# EAGLE library part TLV320AIC23B (library audio)
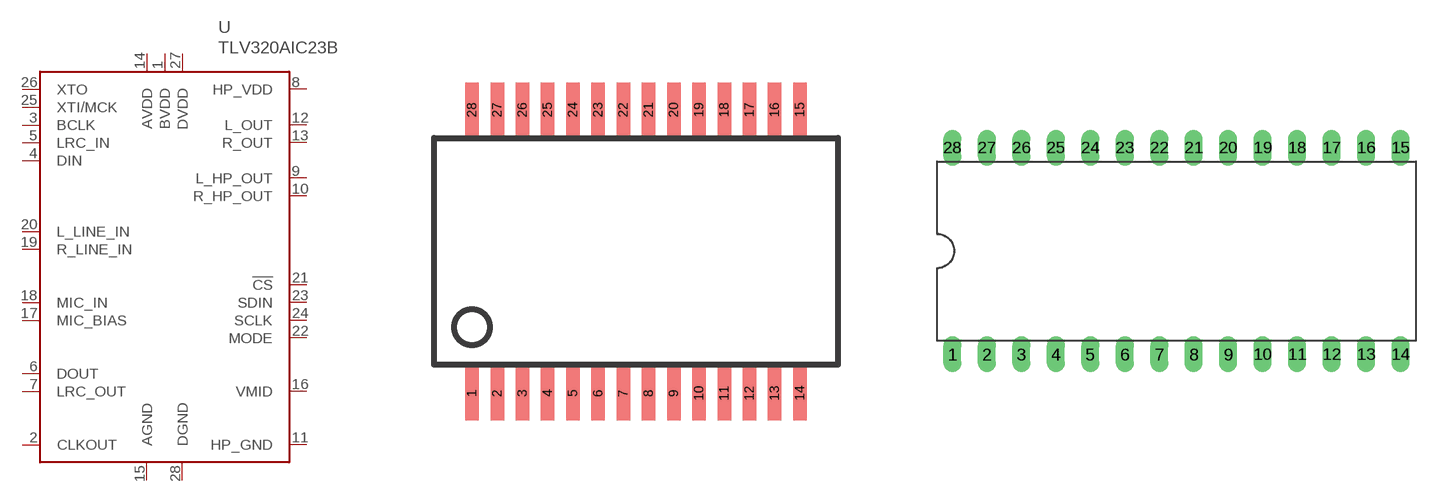
[diagram p1: symbol with the pads of SSOP28BU; footprints SSOP28BU, DIP28-6]

Designator prefix U

## TLV320AIC23BSSOP  [SSOP28BU]
1  BVDD  pwr
2  CLKOUT
3  BCLK
4  DIN
5  LRC_IN
6  DOUT
7  LRC_OUT
8  HP_VDD
9  L_HP_OUT
10  R_HP_OUT
11  HP_GND
12  L_OUT
13  R_OUT
14  AVDD  pwr
15  AGND  pwr
16  VMID
17  MIC_BIAS
18  MIC_IN
19  R_LINE_IN
20  L_LINE_IN
21  !CS
22  MODE
23  SDIN
24  SCLK
25  XTI/MCK
26  XTO
27  DVDD  pwr
28  DGND  pwr

## TLV320AIC23BDIP  [DIP28-6]
Pads as for SSOP28BU

## Footprint SSOP28BU (pad centres in mm)
smd 0.348 x 1.397: 1 -4.225,-3.656; 2 -3.575,-3.656; 3 -2.925,-3.656; 4 -2.275,-3.656; 5 -1.625,-3.656; 6 -0.975,-3.656; 7 -0.325,-3.656; 8 0.325,-3.656; 9 0.975,-3.656; 10 1.625,-3.656; 11 2.275,-3.656; 12 2.925,-3.656; 13 3.575,-3.656; 14 4.225,-3.656; 15 4.225,3.656; 16 3.575,3.656; 17 2.925,3.656; 18 2.275,3.656; 19 1.625,3.656; 20 0.975,3.656; 21 0.325,3.656; 22 -0.325,3.656; 23 -0.975,3.656; 24 -1.625,3.656; 25 -2.275,3.656; 26 -2.925,3.656; 27 -3.575,3.656; 28 -4.225,3.656

## Footprint DIP28-6 (pad centres in mm)
drill 0.813 long: 1 -16.51,-7.62; 2 -13.97,-7.62; 3 -11.43,-7.62; 4 -8.89,-7.62; 5 -6.35,-7.62; 6 -3.81,-7.62; 7 -1.27,-7.62; 8 1.27,-7.62; 9 3.81,-7.62; 10 6.35,-7.62; 11 8.89,-7.62; 12 11.43,-7.62; 13 13.97,-7.62; 14 16.51,-7.62; 15 16.51,7.62; 16 13.97,7.62; 17 11.43,7.62; 18 8.89,7.62; 19 6.35,7.62; 20 3.81,7.62; 21 1.27,7.62; 22 -1.27,7.62; 23 -3.81,7.62; 24 -6.35,7.62; 25 -8.89,7.62; 26 -11.43,7.62; 27 -13.97,7.62; 28 -16.51,7.62